# Altium footprint library C0603-1uF.PcbLib: 1 footprints
Each footprint in its own frame and in the unit in brackets; x right, y up, seen from the top. Pads: shape width x height; smd on the part's side, far side on the other; paste and mask are expansions set on the pad; w line width, h text height; cw(c..) or ccw(c..) is an arc to the next point about the centre after c.
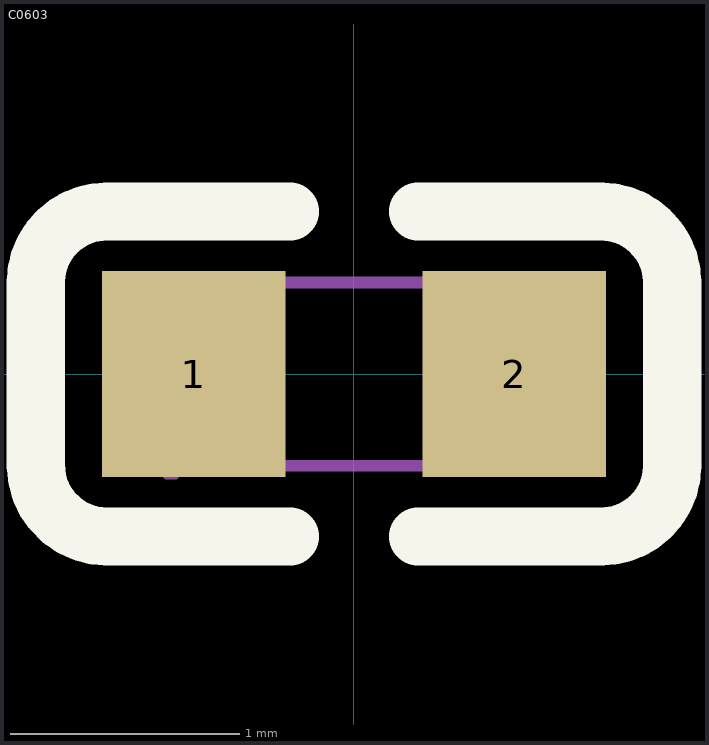
[diagram p0: the footprint, top view; thin cyan lines are the x and y axes]

## C0603 [mm]
pads (2):
  rect 0.8x0.9 smd: 1(-0.7,0) 2(0.7,0)
Top Overlay:
  lines w0.254: -1.08,-0.71 -0.28,-0.71 ; -1.08,0.71 -0.28,0.71 ; -1.08,-0.71 cw(c-1.08,-0.4) -1.39,-0.4 -1.39,0.4 cw(c-1.08,0.4) -1.08,0.71 ; 0.28,-0.71 1.08,-0.71 ccw(c1.08,-0.4) 1.39,-0.4 1.39,0.4 ccw(c1.08,0.4) 1.08,0.71 0.28,0.71
Mechanical 6:
  lines w0.051: -0.8,-0.4 0.8,-0.4 0.8,0.4 -0.8,0.4 -0.8,-0.4
Mechanical 8:
  region: -0.74,-0.4 -0.74,-0.425 -0.775,-0.46 -0.825,-0.46 -0.86,-0.425 -0.86,-0.4 -0.86,-0.375 -0.825,-0.34 -0.775,-0.34 -0.74,-0.375 -0.74,-0.4
Mechanical 9:
  region: 0.8,-0.4 0.8,0.4 0.5,0.4 0.5,-0.4
  region: -0.8,-0.4 -0.8,0.4 -0.5,0.4 -0.5,-0.4